# EAGLE library part MICROSD-SOCKET (library EagleLibrary)
microSD Socket
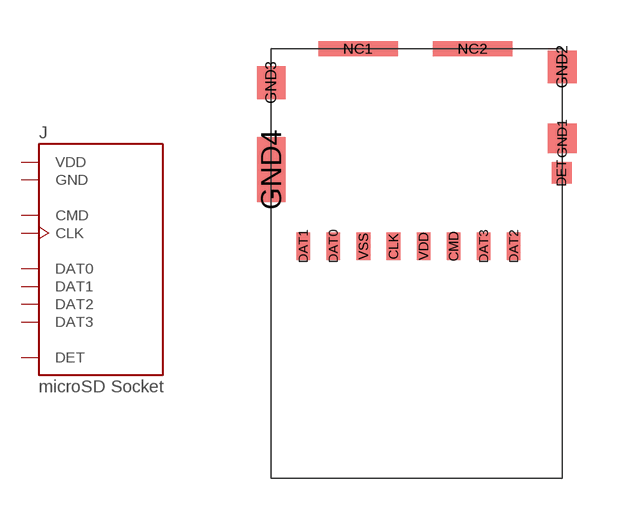
[diagram p18: symbol with the pads of MOLEX-1051620001; footprint MOLEX-1051620001]

Designator prefix J

## MICROSD-SOCKET (MFG: Molex; PN: 105162-0001)  [MOLEX-1051620001]
CLK  CLK
CMD  CMD
DAT0  DAT0
DAT1  DAT1
DAT2  DAT2
DAT3  DAT3
DET  DET
GND1  GND
GND2  GND
GND3  GND
GND4  GND
VDD  VDD
VSS  GND

## Footprint MOLEX-1051620001 (pad centres in mm)
smd 0.5 x 1: CLK -0.85,0.632; CMD 1.35,0.632; DAT0 -3.05,0.632; DAT1 -4.15,0.632; DAT2 3.55,0.632; DAT3 2.45,0.632; VDD 0.25,0.632; VSS -1.95,0.632
smd 0.72 x 0.78: DET 5.31,3.312
smd 1.05 x 1.08: GND1 5.325,4.582
smd 1.05 x 1.2: GND2 5.325,7.192; GND3 -5.325,6.622
smd 1.05 x 2.39: GND4 -5.325,3.438
smd 2.91 x 0.55: NC1 -2.145,7.867; NC2 2.045,7.867